# Altium schematic symbol library TPSB107K006R0250.SchLib: 1 symbol
Pins are listed as number, name and electrical type; pins without a type are passive.

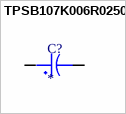
[diagram p0: symbol TPSB107K006R0250]

## TPSB107K006R0250
designator C?
footprint TPSB107K006R0250
pins: 1, 2